# Altium schematic symbol library DRV8823DCA.Schlib: 1 symbol
Pins are listed as number, name and electrical type; pins without a type are passive.

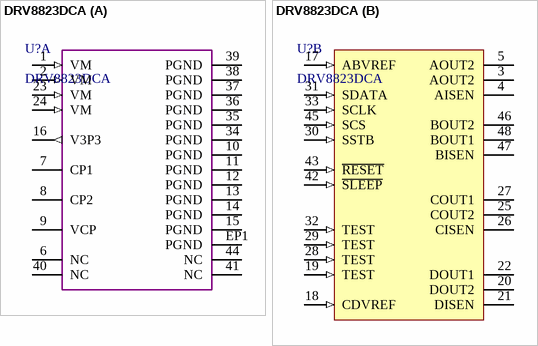
[diagram p0: symbol DRV8823DCA]

## DRV8823DCA
designator U?
part A pins: 1 VM (in), 2 VM (in), 6 NC, 7 CP1, 8 CP2, 9 VCP, 10 PGND, 11 PGND, 12 PGND, 13 PGND, 14 PGND, 15 PGND, 16 V3P3 (out), 23 VM (in), 24 VM (in), 34 PGND, 35 PGND, 36 PGND, 37 PGND, 38 PGND, 39 PGND, 40 NC, 41 NC, 44 NC, EP1 PGND
part B pins: 3 AOUT2, 4 AISEN, 5 AOUT2, 17 ABVREF (in), 18 CDVREF (in), 19 TEST (in) "DNC", 20 DOUT2, 21 DISEN, 22 DOUT1, 25 COUT2, 26 CISEN, 27 COUT1, 28 TEST (in) "DNC", 29 TEST (in) "DNC", 30 SSTB (in), 31 SDATA (in), 32 TEST (in) "DNC", 33 SCLK (in), 42 ~{SLEEP} (in), 43 ~{RESET} (in), 45 SCS (in), 46 BOUT2, 47 BISEN, 48 BOUT1